# Altium footprint library MY_LIB.PcbLib: 129 footprints (part 9 of 9)
Each footprint in its own frame and in the unit in brackets; x right, y up, seen from the top. Pads: shape width x height; smd on the part's side, far side on the other; paste and mask are expansions set on the pad; w line width, h text height; cw(c..) or ccw(c..) is an arc to the next point about the centre after c.
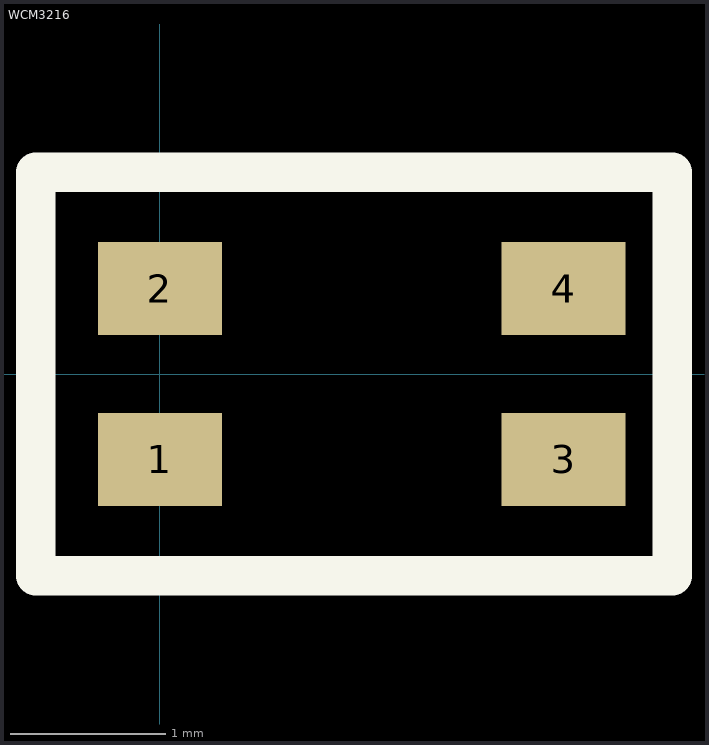
[diagram p8: the footprint, top view; thin cyan lines are the x and y axes]

## WCM3216 [mm]
pads (4):
  rect 0.8x0.6 smd: 1(0,-0.55) 2(0,0.55) 3(2.6,-0.55) 4(2.6,0.55)
Top Overlay:
  lines w0.254: -0.8,-1.3 -0.8,1.3 3.3,1.3 3.3,-1.3 -0.8,-1.3